# EAGLE library part MAX5854ETL+ (library My_Library_2)
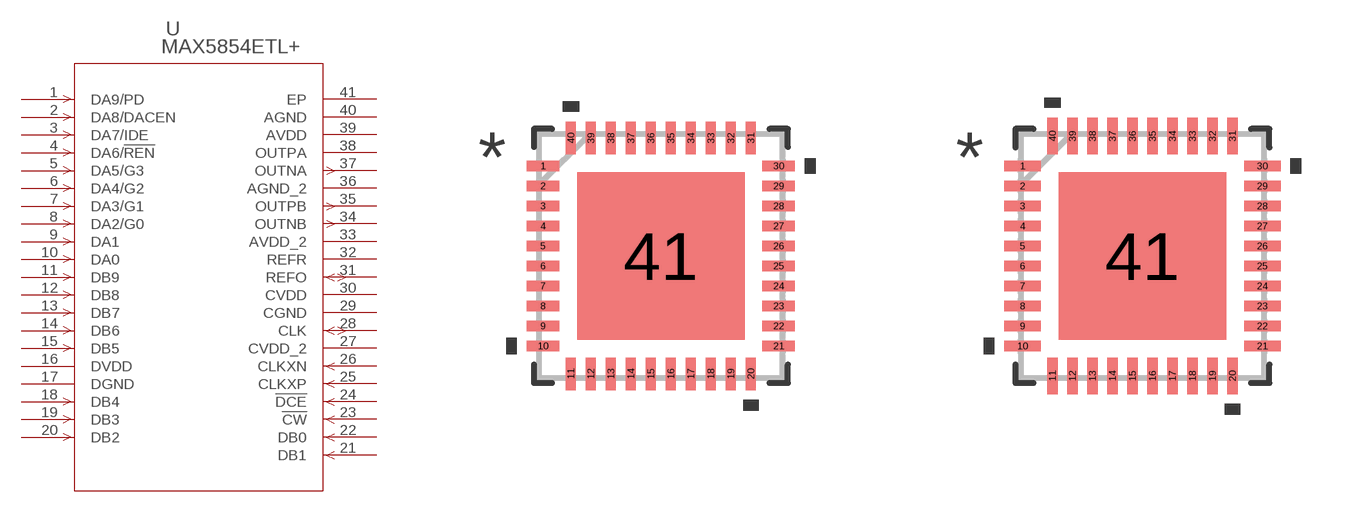
[diagram p9: symbol with the pads of 21-0141_T4066+2_MXM; footprints 21-0141_T4066+2_MXM, 21-0141_T4066+2_MXM-M]

Designator prefix U

## MAX5854ETL+ (COPYRIGHT: Copyright (C) 2025 Ultra Librarian. All rights reserved.; MANUFACTURER_PART_NUMBER: MAX5854ETL+; MFR_NAME: Analog Devices Inc)  [21-0141_T4066+2_MXM]
1  DA9/PD
2  DA8/DACEN
3  DA7/IDE
4  DA6/!REN
5  DA5/G3
6  DA4/G2
7  DA3/G1
8  DA2/G0
9  DA1
10  DA0
11  DB9
12  DB8
13  DB7
14  DB6
15  DB5
16  DVDD  pwr
17  DGND  pas
18  DB4
19  DB3
20  DB2
21  DB1
22  DB0
23  !CW  pas
24  !DCE  pas
25  CLKXP  pas
26  CLKXN  pas
27  CVDD_2  pwr
28  CLK  pas
29  CGND  pas
30  CVDD  pwr
31  REFO  pas
32  REFR  pas
33  AVDD_2  pwr
34  OUTNB  out
35  OUTPB  out
36  AGND_2  pas
37  OUTNA  out
38  OUTPA  out
39  AVDD  pwr
40  AGND  pas
41  EP  pas

## MAX5854ETL+21-0141_T4066+2_MXM-M (COPYRIGHT: Copyright (C) 2025 Ultra Librarian. All rights reserved.; MANUFACTURER_PART_NUMBER: MAX5854ETL+; MFR_NAME: Analog Devices Inc)  [21-0141_T4066+2_MXM-M]
Pads as for 21-0141_T4066+2_MXM

## MAX5854ETL+21-0141_T4066+2_MXM-L (COPYRIGHT: Copyright (C) 2025 Ultra Librarian. All rights reserved.; MANUFACTURER_PART_NUMBER: MAX5854ETL+; MFR_NAME: Analog Devices Inc)  [21-0141_T4066+2_MXM-L]
Pads as for 21-0141_T4066+2_MXM

## Footprint 21-0141_T4066+2_MXM (pad centres in mm)
smd 0.813 x 0.254: 1 -2.946,2.25; 2 -2.946,1.75; 3 -2.946,1.25; 4 -2.946,0.75; 5 -2.946,0.25; 6 -2.946,-0.25; 7 -2.946,-0.75; 8 -2.946,-1.25; 9 -2.946,-1.75; 10 -2.946,-2.25; 21 2.946,-2.25; 22 2.946,-1.75; 23 2.946,-1.25; 24 2.946,-0.75; 25 2.946,-0.25; 26 2.946,0.25; 27 2.946,0.75; 28 2.946,1.25; 29 2.946,1.75; 30 2.946,2.25
smd 0.254 x 0.813: 11 -2.25,-2.946; 12 -1.75,-2.946; 13 -1.25,-2.946; 14 -0.75,-2.946; 15 -0.25,-2.946; 16 0.25,-2.946; 17 0.75,-2.946; 18 1.25,-2.946; 19 1.75,-2.946; 20 2.25,-2.946; 31 2.25,2.946; 32 1.75,2.946; 33 1.25,2.946; 34 0.75,2.946; 35 0.25,2.946; 36 -0.25,2.946; 37 -0.75,2.946; 38 -1.25,2.946; 39 -1.75,2.946; 40 -2.25,2.946
smd 4.191 x 4.191: 41 0,0

## Footprint 21-0141_T4066+2_MXM-M (pad centres in mm)
smd 0.914 x 0.254: 1 -2.997,2.25; 2 -2.997,1.75; 3 -2.997,1.25; 4 -2.997,0.75; 5 -2.997,0.25; 6 -2.997,-0.25; 7 -2.997,-0.75; 8 -2.997,-1.25; 9 -2.997,-1.75; 10 -2.997,-2.25; 21 2.997,-2.25; 22 2.997,-1.75; 23 2.997,-1.25; 24 2.997,-0.75; 25 2.997,-0.25; 26 2.997,0.25; 27 2.997,0.75; 28 2.997,1.25; 29 2.997,1.75; 30 2.997,2.25
smd 0.254 x 0.914: 11 -2.25,-2.997; 12 -1.75,-2.997; 13 -1.25,-2.997; 14 -0.75,-2.997; 15 -0.25,-2.997; 16 0.25,-2.997; 17 0.75,-2.997; 18 1.25,-2.997; 19 1.75,-2.997; 20 2.25,-2.997; 31 2.25,2.997; 32 1.75,2.997; 33 1.25,2.997; 34 0.75,2.997; 35 0.25,2.997; 36 -0.25,2.997; 37 -0.75,2.997; 38 -1.25,2.997; 39 -1.75,2.997; 40 -2.25,2.997
smd 4.191 x 4.191: 41 0,0

## Footprint 21-0141_T4066+2_MXM-L (pad centres in mm)
smd 0.711 x 0.254: 1 -2.896,2.25; 2 -2.896,1.75; 3 -2.896,1.25; 4 -2.896,0.75; 5 -2.896,0.25; 6 -2.896,-0.25; 7 -2.896,-0.75; 8 -2.896,-1.25; 9 -2.896,-1.75; 10 -2.896,-2.25; 21 2.896,-2.25; 22 2.896,-1.75; 23 2.896,-1.25; 24 2.896,-0.75; 25 2.896,-0.25; 26 2.896,0.25; 27 2.896,0.75; 28 2.896,1.25; 29 2.896,1.75; 30 2.896,2.25
smd 0.254 x 0.711: 11 -2.25,-2.896; 12 -1.75,-2.896; 13 -1.25,-2.896; 14 -0.75,-2.896; 15 -0.25,-2.896; 16 0.25,-2.896; 17 0.75,-2.896; 18 1.25,-2.896; 19 1.75,-2.896; 20 2.25,-2.896; 31 2.25,2.896; 32 1.75,2.896; 33 1.25,2.896; 34 0.75,2.896; 35 0.25,2.896; 36 -0.25,2.896; 37 -0.75,2.896; 38 -1.25,2.896; 39 -1.75,2.896; 40 -2.25,2.896
smd 4.191 x 4.191: 41 0,0